# EAGLE library part TPS233X (library RalimTek)
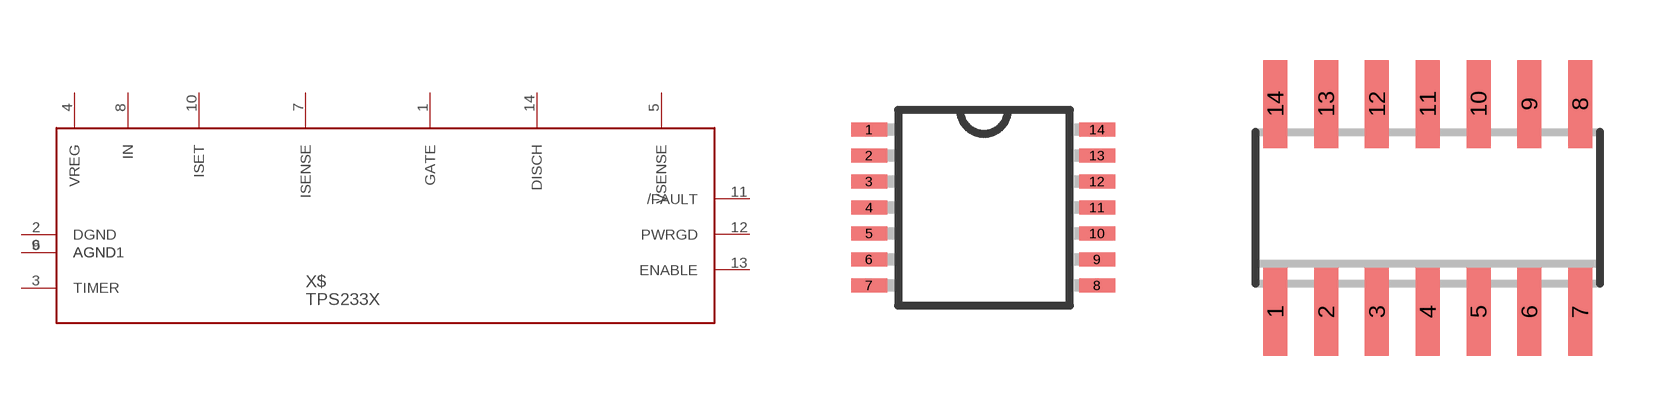
[diagram p37: symbol with the pads of TSSOP14; footprints TSSOP14, SO14]

Designator prefix X$

## TPS233XTSSOP  [TSSOP14]
1  GATE
2  DGND
3  TIMER
4  VREG
5  VSENSE
6  AGND
7  ISENSE
8  IN
9  AGND1
10  ISET
11  /FAULT
12  PWRGD
13  ENABLE
14  DISCH

## TPS233XSOIC14  [SO14]
Pads as for TSSOP14

## TPS233XSOIC-14  [SOIC-14]
Pads as for TSSOP14

## Footprint TSSOP14 (pad centres in mm)
14-Lead Thin Shrink Small Outline Package [TSSOP]
smd 0.9 x 0.35: 1 -2.875,1.95; 2 -2.875,1.3; 3 -2.875,0.65; 4 -2.875,0; 5 -2.875,-0.65; 6 -2.875,-1.3; 7 -2.875,-1.95; 8 2.825,-1.95; 9 2.825,-1.3; 10 2.825,-0.65; 11 2.825,0; 12 2.825,0.65; 13 2.825,1.3; 14 2.825,1.95

## Footprint SO14 (pad centres in mm)
14-Lead Narrow-Body SOIC (SO-14) Source: http://www.analog.com/static/imported-files/data_sheets/SSM2166.pdf
smd 0.6 x 2.2: 1 -3.81,-2.6; 2 -2.54,-2.6; 3 -1.27,-2.6; 4 0,-2.6; 5 1.27,-2.6; 6 2.54,-2.6; 7 3.81,-2.6; 8 3.81,2.6; 9 2.54,2.6; 10 1.27,2.6; 11 0,2.6; 12 -1.27,2.6; 13 -2.54,2.6; 14 -3.81,2.6

## Footprint SOIC-14 (pad centres in mm)
SSOP-14, 0.6 x 1.5 mm pad, 1.27mm pad pitch
smd 0.6 x 1.5: 1 -3.81,-2.7; 2 -2.54,-2.7; 3 -1.27,-2.7; 4 0,-2.7; 5 1.27,-2.7; 6 2.54,-2.7; 7 3.81,-2.7; 8 3.81,2.7; 9 2.54,2.7; 10 1.27,2.7; 11 0,2.7; 12 -1.27,2.7; 13 -2.54,2.7; 14 -3.81,2.7